# EAGLE library part USB5534 (library smsc)
4-Port SS/HS USB Hub Controller
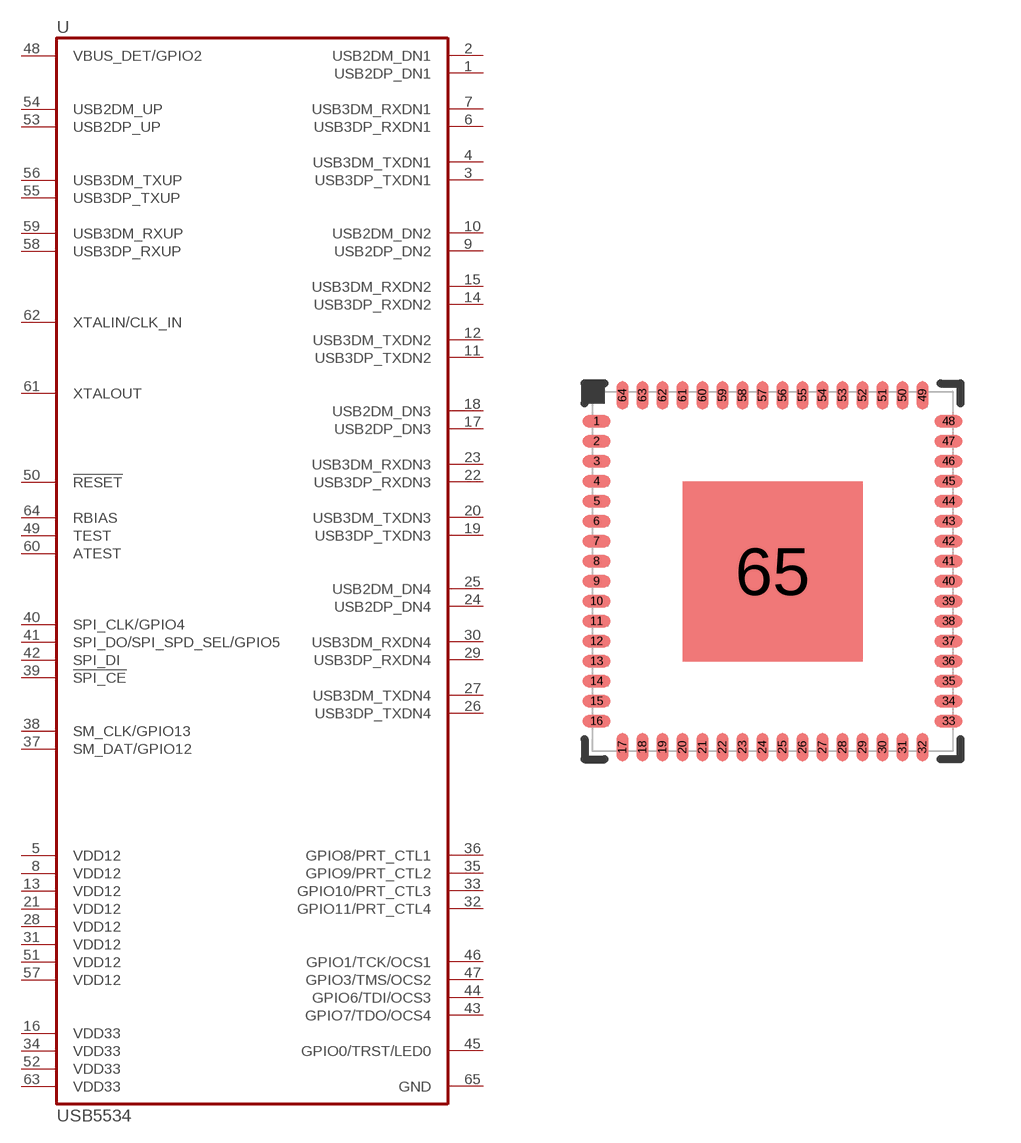
[diagram p2: symbol with the pads of QFN64; footprint QFN64]

Designator prefix U

## USB5534  [QFN64]
1  USB2DP_DN1
2  USB2DM_DN1
3  USB3DP_TXDN1
4  USB3DM_TXDN1
5  VDD12  pwr
6  USB3DP_RXDN1
7  USB3DM_RXDN1
8  VDD12  pwr
9  USB2DP_DN2
10  USB2DM_DN2
11  USB3DP_TXDN2
12  USB3DM_TXDN2
13  VDD12  pwr
14  USB3DP_RXDN2
15  USB3DM_RXDN2
16  VDD33  pwr
17  USB2DP_DN3
18  USB2DM_DN3
19  USB3DP_TXDN3
20  USB3DM_TXDN3
21  VDD12  pwr
22  USB3DP_RXDN3
23  USB3DM_RXDN3
24  USB2DP_DN4
25  USB2DM_DN4
26  USB3DP_TXDN4
27  USB3DM_TXDN4
28  VDD12  pwr
29  USB3DP_RXDN4
30  USB3DM_RXDN4
31  VDD12  pwr
32  GPIO11/PRT_CTL4
33  GPIO10/PRT_CTL3
34  VDD33  pwr
35  GPIO9/PRT_CTL2
36  GPIO8/PRT_CTL1
37  SM_DAT/GPIO12
38  SM_CLK/GPIO13
39  !SPI_CE!
40  SPI_CLK/GPIO4
41  SPI_DO/SPI_SPD_SEL/GPIO5
42  SPI_DI  in
43  GPIO7/TDO/OCS4
44  GPIO6/TDI/OCS3
45  GPIO0/TRST/LED0  in
46  GPIO1/TCK/OCS1  in
47  GPIO3/TMS/OCS2
48  VBUS_DET/GPIO2  in
49  TEST  pas
50  !RESET!  in
51  VDD12  pwr
52  VDD33  pwr
53  USB2DP_UP
54  USB2DM_UP
55  USB3DP_TXUP
56  USB3DM_TXUP
57  VDD12  pwr
58  USB3DP_RXUP
59  USB3DM_RXUP
60  ATEST  pas
61  XTALOUT  out
62  XTALIN/CLK_IN  in
63  VDD33  pwr
64  RBIAS  pas
65  GND  pwr

## Footprint QFN64 (pad centres in mm)
Quad Flat NoLead Package (QFN) 64-pad, 9 x 9 x 1.0 mm Body, Lead Pitch 0.50 mm, 4.80 mm Exposed Pad
smd 0.7 x 0.3: 1 -4.4,3.75; 2 -4.4,3.25; 3 -4.4,2.75; 4 -4.4,2.25; 5 -4.4,1.75; 6 -4.4,1.25; 7 -4.4,0.75; 8 -4.4,0.25; 9 -4.4,-0.25; 10 -4.4,-0.75; 11 -4.4,-1.25; 12 -4.4,-1.75; 13 -4.4,-2.25; 14 -4.4,-2.75; 15 -4.4,-3.25; 16 -4.4,-3.75; 33 4.4,-3.75; 34 4.4,-3.25; 35 4.4,-2.75; 36 4.4,-2.25; 37 4.4,-1.75; 38 4.4,-1.25; 39 4.4,-0.75; 40 4.4,-0.25; 41 4.4,0.25; 42 4.4,0.75; 43 4.4,1.25; 44 4.4,1.75; 45 4.4,2.25; 46 4.4,2.75; 47 4.4,3.25; 48 4.4,3.75
smd 0.3 x 0.7: 17 -3.75,-4.4; 18 -3.25,-4.4; 19 -2.75,-4.4; 20 -2.25,-4.4; 21 -1.75,-4.4; 22 -1.25,-4.4; 23 -0.75,-4.4; 24 -0.25,-4.4; 25 0.25,-4.4; 26 0.75,-4.4; 27 1.25,-4.4; 28 1.75,-4.4; 29 2.25,-4.4; 30 2.75,-4.4; 31 3.25,-4.4; 32 3.75,-4.4; 49 3.75,4.4; 50 3.25,4.4; 51 2.75,4.4; 52 2.25,4.4; 53 1.75,4.4; 54 1.25,4.4; 55 0.75,4.4; 56 0.25,4.4; 57 -0.25,4.4; 58 -0.75,4.4; 59 -1.25,4.4; 60 -1.75,4.4; 61 -2.25,4.4; 62 -2.75,4.4; 63 -3.25,4.4; 64 -3.75,4.4
smd 4.5 x 4.5: 65 0,0